# EAGLE library part KK156-10_S (library con-molex-kk)
HEADER
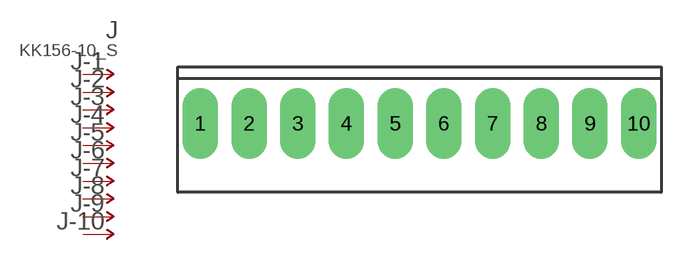
[diagram p169: symbol with the pads of KK156-10; footprint KK156-10]

Designator prefix J; gates -1=P-NV -2=P-N -3=P-N -4=P-N -5=P-N -6=P-N -7=P-N -8=P-N -9=P-N -10=P-N

## KK156-10_S  [KK156-10]
1  -1:P  pas
2  -2:P  pas
3  -3:P  pas
4  -4:P  pas
5  -5:P  pas
6  -6:P  pas
7  -7:P  pas
8  -8:P  pas
9  -9:P  pas
10  -10:P  pas

## Footprint KK156-10 (pad centres in mm)
HEADER - 0.156" SPOX 5273 Series
drill 1.93 long: 1 -17.831,0; 2 -13.868,0; 3 -9.906,0; 4 -5.944,0; 5 -1.981,0; 6 1.981,0; 7 5.944,0; 8 9.906,0; 9 13.868,0; 10 17.831,0